# Altium schematic symbol library this.SchLib: 16 symbols
Pins are listed as number, name and electrical type; pins without a type are passive.

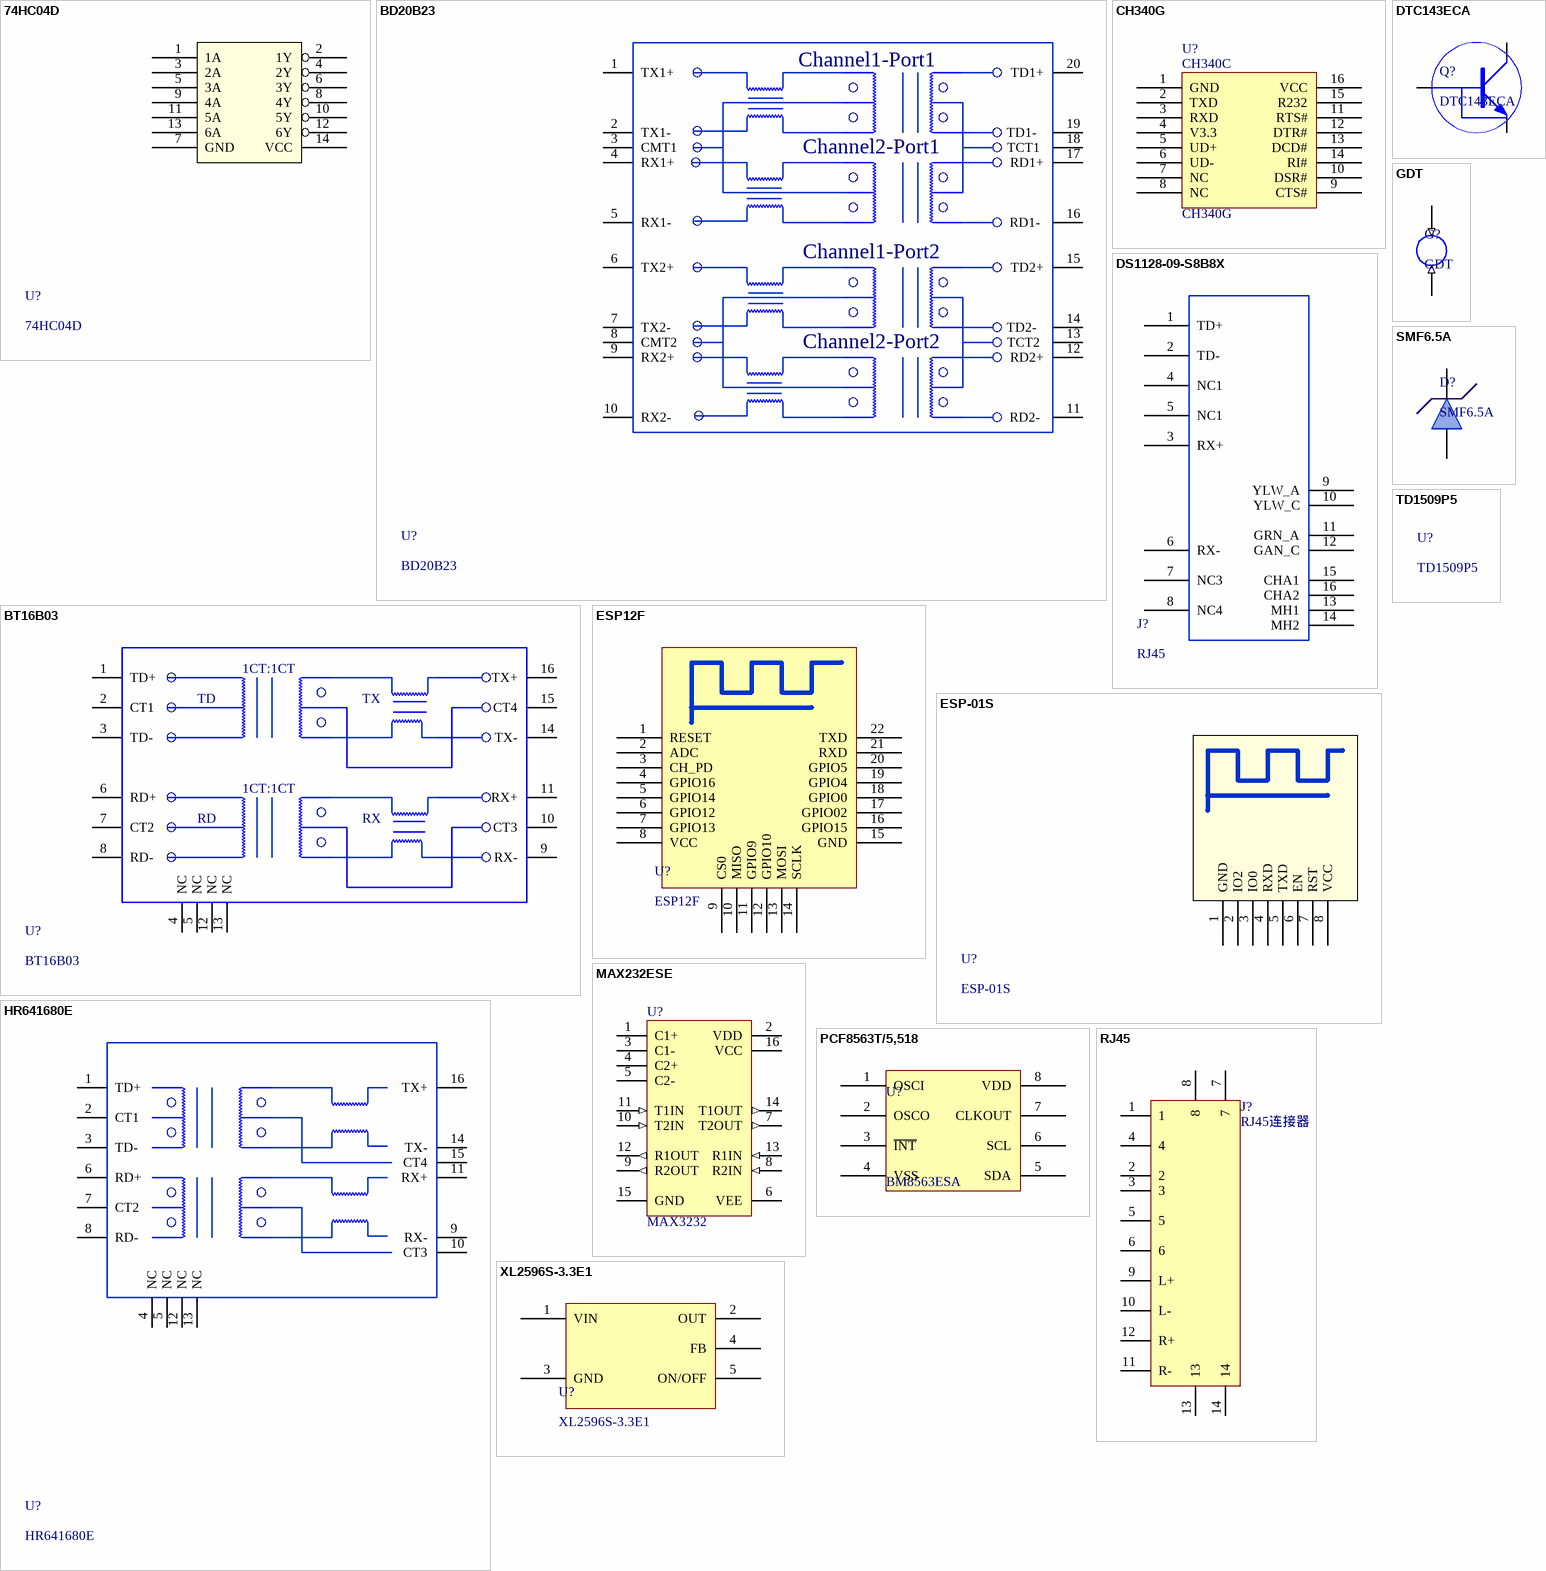
[diagram p0: symbols 74HC04D to XL2596S-3.3E1]

## 74HC04D
designator U?
反相器; ComponentLink1Description: 富满; ComponentLink1URL: https://item.szlcsc.com/87790.html
pins: 1 1A, 2 1Y, 3 2A, 4 2Y, 5 3A, 6 3Y, 7 GND (power), 8 4Y, 9 4A, 10 5Y, 11 5A, 12 6Y, 13 6A, 14 VCC (power)

## BD20B23
designator U?
双网口网络变压器
footprint BD20B23
pins: 1 TX1+, 2 TX1-, 3 CMT1, 4 RX1+, 5 RX1-, 6 TX2+, 7 TX2-, 8 CMT2, 9 RX2+, 10 RX2-, 11 RD2- , 12 RD2+, 13 TCT2 , 14 TD2-  , 15 TD2+, 16 RD1- , 17 RD1+, 18 TCT1 , 19 TD1-  , 20 TD1+
text: Channel1-Port1; Channel2-Port1; Channel1-Port2; Channel2-Port2

## BT16B03
designator U?
网口变压器
footprint BT16B03
pins: 1 TD+, 2 CT1, 3 TD-, 4 NC, 5 NC, 6 RD+, 7 CT2, 8 RD-, 9 RX-, 10 CT3, 11 RX+, 12 NC, 13 NC, 14 TX-, 15 CT4, 16 TX+
text: 1CT:1CT; TD; TX; RD; RX

## CH340G
designator U?
USB; ComponentLink1Description: 供应商链接; ComponentLink1URL: http://www.szlcsc.com/product/details_14927.html; Package: SOIC-16_150mil; Supplier: LC; SuppliersPartNumber: C14267
footprint SOIC-16_150mil
pins: 1 GND, 2 TXD, 3 RXD, 4 V3.3, 5 UD+, 6 UD-, 7 NC, 8 NC, 9 CTS#, 10 DSR#, 11 RTS#, 12 DTR#, 13 DCD#, 14 RI#, 15 R232, 16 VCC
text: CH340C

## DS1128-09-S8B8X
designator J?, comment RJ45
网口
pins: 1 TD+, 2 TD-, 3 RX+, 4 NC1, 5 NC1, 6 RX-, 7 NC3, 8 NC4, 9 YLW_A, 10 YLW_C, 11 GRN_A, 12 GAN_C, 13 MH1, 14 MH2, 15 CHA1, 16 CHA2

## DTC143ECA
designator Q?
NPN集成三极管
pins: 1 IN, 2 GND, 3 OUT
1 alternate drawing of the same symbol

## ESP12F
designator U?
WIFI模组
footprint ESP_MOD
pins: 1 RESET, 2 ADC, 3 CH_PD, 4 GPIO16, 5 GPIO14, 6 GPIO12, 7 GPIO13, 8 VCC, 9 CS0, 10 MISO, 11 GPIO9, 12 GPIO10, 13 MOSI, 14 SCLK, 15 GND, 16 GPIO15, 17 GPIO02, 18 GPIO0, 19 GPIO4, 20 GPIO5, 21 RXD, 22 TXD

## ESP-01S
designator U?
wifi模块
pins: 1 GND, 2 IO2, 3 IO0, 4 RXD, 5 TXD, 6 EN, 7 RST, 8 VCC

## GDT
designator G?
放电管
pins: 1 (in), 2 (in)

## HR641680E
designator U?
网口变压器
pins: 1 TD+, 2 CT1, 3 TD-, 4 NC, 5 NC, 6 RD+, 7 CT2, 8 RD-, 9 RX-, 10 CT3, 11 RX+, 12 NC, 13 NC, 14 TX-, 15 CT4, 16 TX+

## MAX232ESE
designator U?, comment MAX3232
RS232; ComponentLink1Description: 供应商链接; ComponentLink1URL: http://www.szlcsc.com/product/details_27608.html; Package: SOIC-16_150mil; Supplier: LC; SuppliersPartNumber: C26860
footprint SOIC-16_150mil
pins: 1 C1+, 2 VDD (power), 3 C1-, 4 C2+, 5 C2-, 6 VEE (power), 7 T2OUT (out), 8 R2IN (in), 9 R2OUT (out), 10 T2IN (in), 11 T1IN (in), 12 R1OUT (out), 13 R1IN (in), 14 T1OUT (out), 15 GND (power), 16 VCC (power)

## PCF8563T/5,518
designator U?, comment BM8563ESA
实时时钟; ComponentLink1Description: 供应商链接; ComponentLink1URL: http://www.szlcsc.com/product/details_7917.html; Package: SOIC-8_150mil; Supplier: LC; SuppliersPartNumber: C7440
footprint SOIC-8_150mil
pins: 1 OSCI, 2 OSCO, 3 ~{INT}, 4 VSS, 5 SDA, 6 SCL, 7 CLKOUT, 8 VDD

## RJ45
designator J?, comment RJ45连接器
footprint HR911105A
pins: 1, 2, 3, 4, 5, 6, 7, 8, 9 L+, 10 L-, 11 R-, 12 R+, 13, 14

## SMF6.5A
designator D?
TVS单向
footprint LC-SOD-123F
pins: + 1, - 2

## TD1509P5
designator U?
开关电源

## XL2596S-3.3E1
designator U?
开关电源
pins: 1 VIN (power), 2 OUT (power), 3 GND (power), 4 FB (power), 5 ON/OFF (power)